# Altium schematic symbol library Schlib Matias.SchLib: 49 symbols
Pins are listed as number, name and electrical type; pins without a type are passive.

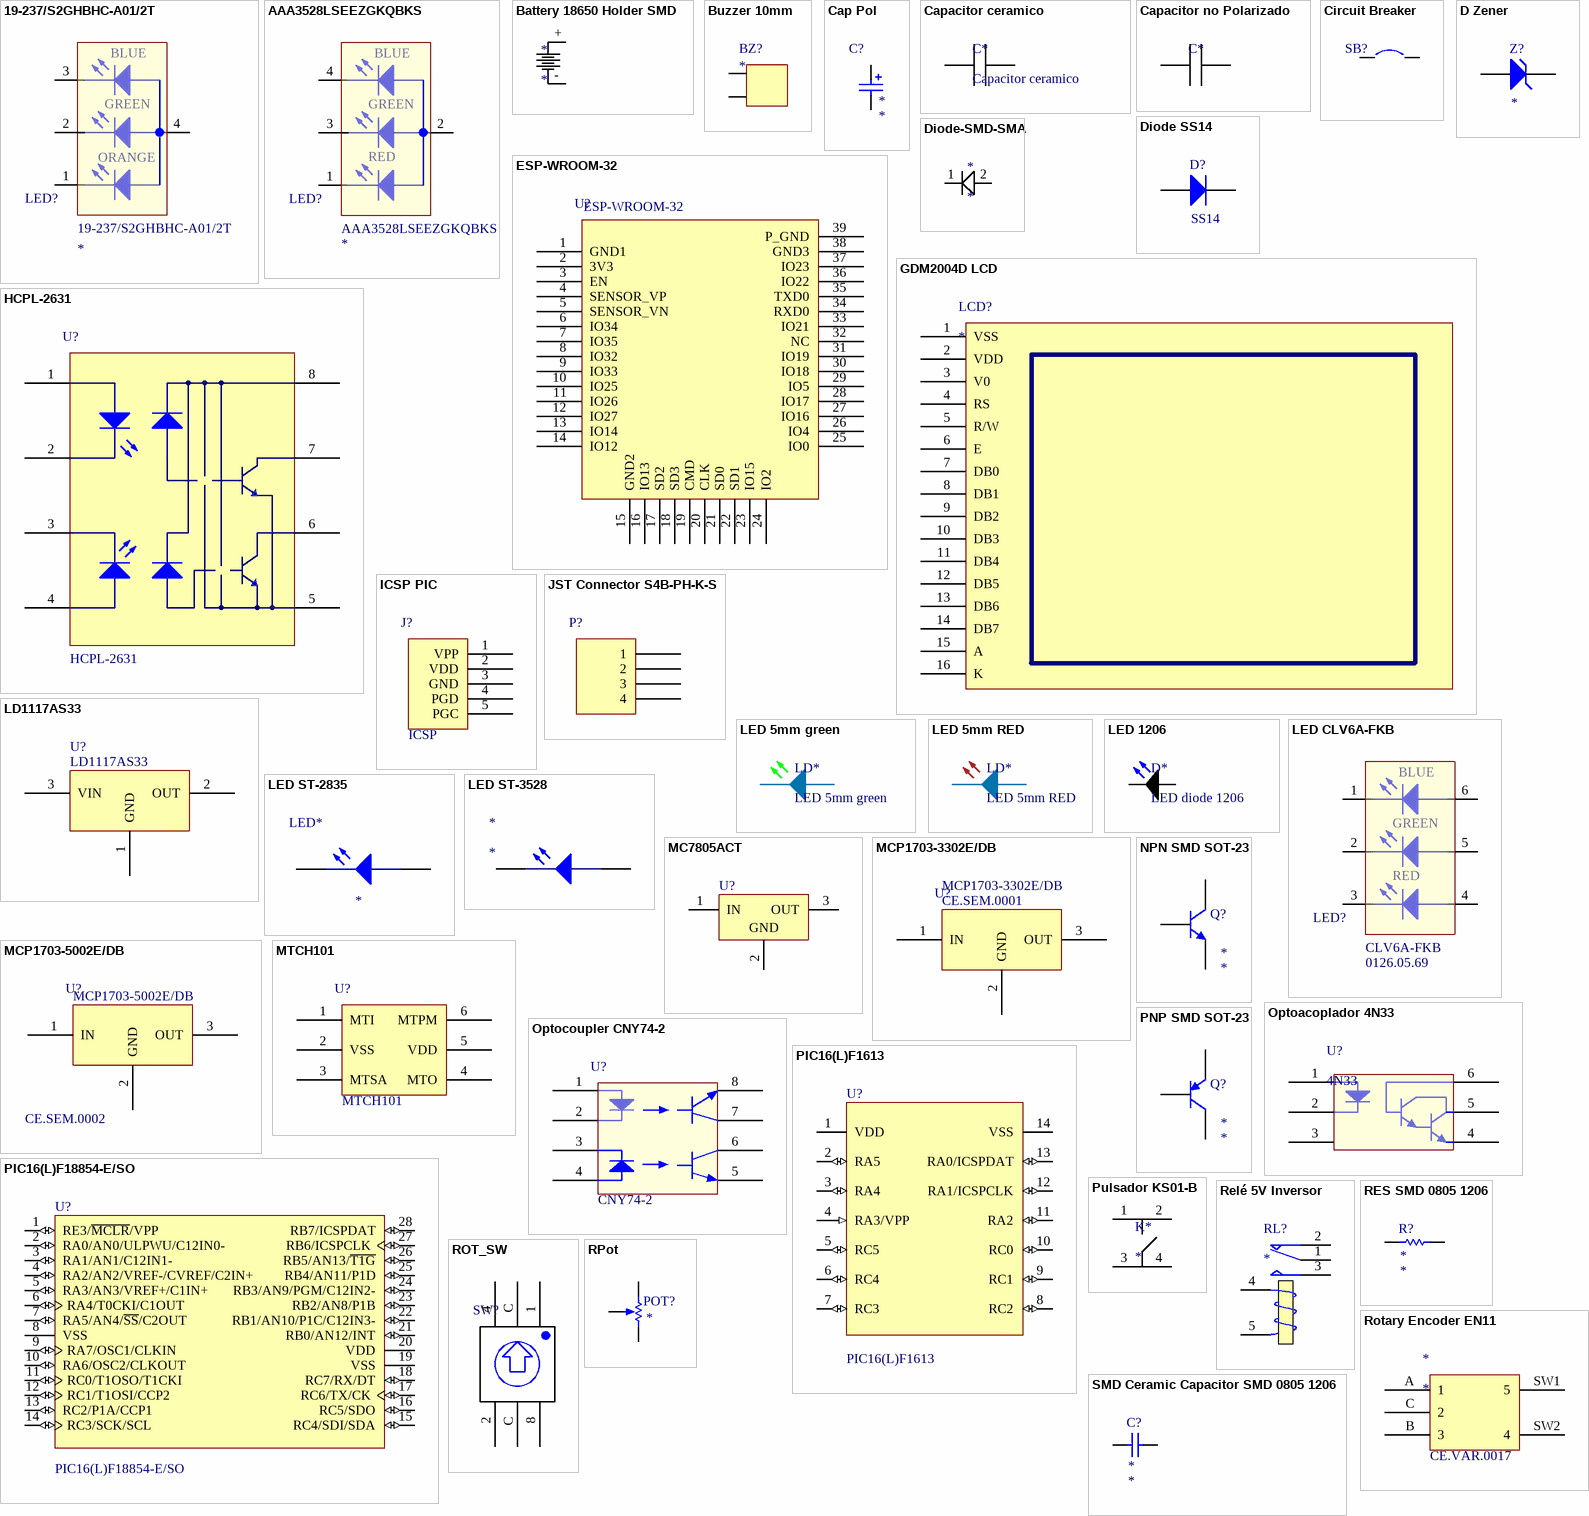
[diagram p0: symbols 19-237/S2GHBHC-A01/2T to SMD Ceramic Capacitor SMD 0805 1206]

## 19-237/S2GHBHC-A01/2T
designator LED?, comment Valor: 19-237/S2GHBHC-A01/2T  (hidden comment: LED)
LED Everlight 19-237/S2GHBHC-A01/2T; ComponentLink2Description: Datasheet; ComponentLink2URL: C:\Matias\Proyectos\Encoder NEO\Datasheets\19-237,S2GHBHC-A01,2T.pdf; Supplier 1: Avnet; Supplier 2: Avnet; Codigo FV: *
footprint LED RGB 19-237/S2GHBHC
pins: 1 S2, 2 GH, 3 BH, 4 +
text: BLUE; GREEN; ORANGE

## AAA3528LSEEZGKQBKS
designator LED?, comment Valor: AAA3528LSEEZGKQBKS  (hidden comment: LED)
LED Kingbright RGB 3528; ComponentLink2Description: Datasheet; ComponentLink2URL: C:\Matias\Proyectos\TRIA LEDS y ARM\Datasheet\AAA3528LSEEZGKQBKS.pdf; Codigo FV: *
footprint LED RGB 3528 4 PINES
pins: 1 KR, 2 KG, 3 KR, 4 KB
text: BLUE; GREEN; RED

## Battery 18650 Holder SMD
designator *
Battery Holder 18650 SMD TAP
footprint Battery 18650 Holder SMD
pins: +, -

## Buzzer 10mm
designator BZ?
BUZZER 3V CON OSCILADOR DE 10MM 83dB MINIMO @10cm
footprint BUZZER 10MM
pins: 1, 2

## Cap Pol
designator C?
Polarized Capacitor; Valor: *; Codigo FV: *
footprint RB6.5
footprint RB5
footprint RB3.5-8.5
footprint RB1.5-4
footprint CAP_ELECT_SMD_6.3X5.9
footprint 6032
pins: 1, 2

## Capacitor ceramico
designator C*
Ceramic Capacitor
footprint Capacitor ceramico (capacitor ceramico)
pins: 1, 2

## Capacitor no Polarizado
designator C*  (value not drawn)
Non Polarized Capacitor
footprint CAP_POLY_1uF_400V
pins: 1, 2

## Circuit Breaker
designator SB?  (value not drawn)
Solder: NO; Published: 24-Mar-1999; Revision: July-2002: Re-released for DXP Platform.; Publisher: Altium Limited
footprint JP2_SMD
pins: 1, 2

## D Zener
designator Z?  (value not drawn)
Zener Diode; Codigo FV: *
simulation model ZENER (Diode)
signal-integrity model D Zener
footprint SOD-123 (SOD-123; 2 Leads; Body 2.7 x 1.6 mm, (LxW))
footprint QMELF (MELF Diode, 2-Leads, Body 3,50x1,65mm, IPC Medium Density)
pins: A, K

## Diode SS14
designator D?  Valor: SS14  (hidden comment: Diode SS14)
Surface Mount Schottky Barrier Rectifier; PackageReference: SMA; ComponentLink1Description: Manufacturer Link; ComponentLink1URL: https://www.vishay.com/; ComponentLink2Description: Datasheet; ComponentLink2URL: https://www.vishay.com/docs/88746/ss12.pdf
footprint SMA (DO-214-AC/SMA; 2 C-Bend Leads; Body 5 x 2.7 mm, inc. leads (LxW))
pins: 1 A, 2 K

## Diode-SMD-SMA
designator *
footprint Diode-SMD-SMA
pins: 1, 2

## ESP-WROOM-32
designator U?  Valor: ESP-WROOM-32  (hidden comment: *)
Wi-Fi+BT+BLE MCU module; ComponentLink1Description: Datasheet; ComponentLink1URL: https://www.espressif.com/en/esp-wroom-32/resources
footprint ESP-WROOM-32
pins: 1 GND1, 2 3V3, 3 EN, 4 SENSOR_VP, 5 SENSOR_VN, 6 IO34, 7 IO35, 8 IO32, 9 IO33, 10 IO25, 11 IO26, 12 IO27, 13 IO14, 14 IO12, 15 GND2, 16 IO13, 17 SD2, 18 SD3, 19 CMD, 20 CLK, 21 SD0, 22 SD1, 23 IO15, 24 IO2, 25 IO0, 26 IO4, 27 IO16, 28 IO17, 29 IO5, 30 IO18, 31 IO19, 32 NC, 33 IO21, 34 RXD0, 35 TXD0, 36 IO22, 37 IO23, 38 GND3, 39 P_GND

## GDM2004D LCD
designator LCD?
GDM2004D LCD XIAMEN OCULAR; ComponentLink2URL: https://www.sparkfun.com/datasheets/LCD/GDM2004D.pdf; ComponentLink2Description: Datasheet
footprint GDM2004D LCD
pins: 1 VSS, 2 VDD, 3 V0, 4 RS, 5 R/W, 6 E, 7 DB0, 8 DB1, 9 DB2, 10 DB3, 11 DB4, 12 DB5, 13 DB6, 14 DB7, 15 A, 16 K

## HCPL-2631
designator U?
Dual-Channel High Speed-10 MBit/s Logic Gate Optocouplers; ComponentLink1URL: https://www.jameco.com/Jameco/Products/ProdDS/871463.pdf; ComponentLink1Description: Datasheet; Valor: HCPL-2631
footprint DIP-8
footprint DIP-8 SURFACE MOUNT
pins: 1 VF1+, 2 VF1-, 3 VF2-, 4 VF2+, 5 GND, 6 V02, 7 V01, 8 VCC

## ICSP PIC
designator J?  Valor: ICSP  (hidden comment: *)
In-Serial Circuit Programmer Header; ComponentLink2URL: http://www.sycelectronica.com.ar/conectores/PLS40-270.pdf; ComponentLink2Description: Datasheet
footprint ISCP HEADER
pins: 1 VPP, 2 VDD, 3 GND, 4 PGD, 5 PGC

## JST Connector S4B-PH-K-S
designator P?  (value not drawn)
JST Connector S4B-PH-K-S; ComponentLink1URL: http://www.jst-mfg.com/product/pdf/eng/ePH.pdf; ComponentLink1Description: Datasheet; Valor: S4B-PH-K-S
footprint CONN S4B-PH-K-S
pins: 1, 2, 3, 4

## LD1117AS33
designator U?
Low drop fixed 3.3V voltage regulator; PackageReference: SOT223; ComponentLink2Description: Datasheet; ComponentLink2URL: https://www.st.com/resource/en/datasheet/cd00002116.pdf; Valor: LD1117AS33
footprint SOT223 (SOT223, 4-Leads, Body 6,7x7,3mm (max), Pitch 2,30mm, IPC Medium Density)
pins: 1 GND, 2 OUT, 3 VIN

## LED 5mm green
designator LD*
footprint LED 5mm Green
pins: A, K

## LED 5mm RED
designator LD*
footprint LED 5mm RED
pins: A, K

## LED 1206
designator D*, comment LED diode 1206
footprint Diode-1206 (LED diode SMD 1206)
pins: 1, 2

## LED CLV6A-FKB
designator LED?, comment Valor: CLV6A-FKB  Codigo FV: 0126.05.69  (hidden comment: LED)
Cree® PLCC6 3-in-1 SMD LED; ComponentLink2Description: Datasheet; ComponentLink2URL: http://pdf1.alldatasheet.com/datasheet-pdf/view/620889/MARKTECH/CLV6A.html
footprint LED_SMD_MULTICOLOR
pins: 1 KB, 2 KG, 3 KR, 4 AR, 5 AG, 6 AB
text: BLUE; GREEN; RED

## LED ST-2835
designator LED*
LED AZUL ST-2835; Valor: *
pins: A AB, K KB

## LED ST-3528
designator *
LED AZUL ST-3528
footprint 0805 LED
footprint LED AZUL CHICO SMD
pins: A AB, K KB

## MC7805ACT
designator U?
3-Terminal Positive Fixed Voltage Regulator; Note: Pin 2 is electrically connected to TAB; Published: 17-Jul-2002; DatasheetVersion: 1988; PackageReference: 221A-04; Publisher: Altium Limited; PackageDescription: TO, Thru-Hole, Vertical, Heatsink Mounted; 3 In-Line Leads; Pitch 2.54 mm; Code_JEDEC: TO-262-AA; ComponentLink1Description: Manufacturer Link; ComponentLink1URL: http://www.onsemi.com/site/products/taxonomy/0,4438,503,00.html; ComponentLink2Description: Datasheet; ComponentLink2URL: http://www.onsemi.com/pub/Collateral/MC7800-D.PDF
footprint 221A-04 (TO, Thru-Hole, Vertical, Heatsink Mounted; 3 In-Line Leads; Pitch 2.54 mm)
pins: 1 IN (power), 2 GND (power), 3 OUT (power)

## MCP1703-3302E/DB
designator U?  Valor: MCP1703-3302E/DB  Codigo FV: CE.SEM.0001  (hidden comment: *)
250 mA, 16V, Vo = 3.3V, Low Quiescent Current LDO Regulator; PackageReference: SOT223; ComponentLink2Description: Datasheet; ComponentLink2URL: http://ww1.microchip.com/downloads/en/DeviceDoc/22049f.pdf; ComponentLink3Description: Datasheet MCP1825; ComponentLink3URL: http://ww1.microchip.com/downloads/en/DeviceDoc/22056b.pdf
footprint SOT223 (SOT223, 4-Leads, Body 6,7x7,3mm (max), Pitch 2,30mm, IPC Medium Density)
pins: 1 IN, 2 GND, 3 OUT

## MCP1703-5002E/DB
designator U?  Valor: MCP1703-5002E/DB  Codigo FV: CE.SEM.0002  (hidden comment: *)
250 mA, 16V, Vo = 5V, Low Quiescent Current LDO Regulator; PackageReference: SOT223; ComponentLink2Description: Datasheet; ComponentLink2URL: http://ww1.microchip.com/downloads/en/DeviceDoc/22049f.pdf
footprint SOT223 (SOT223, 4-Leads, Body 6,7x7,3mm (max), Pitch 2,30mm, IPC Medium Density)
footprint SOT-23A
pins: 1 IN, 2 GND, 3 OUT

## MTCH101
designator U?
Single-Channel Proximity Detector; PackageReference: SOT-23-6; ComponentLink2Description: Datasheet; ComponentLink2URL: http://ww1.microchip.com/downloads/en/DeviceDoc/40001664B.pdf; Valor: MTCH101
footprint SOT-23-6
pins: 1 MTI, 2 VSS, 3 MTSA, 4 MTO, 5 VDD, 6 MTPM

## NPN SMD SOT-23
designator Q?
NPN Bipolar Transistor; Published: 8-Jun-2000; LatestRevisionDate: 29-May-2009; LatestRevisionNote: IPC-7351 Footprint Added.; PackageVersion: Aug-1999; PackageReference: SOT-23B; Publisher: Altium Limited; PackageDescription: 3-Pin SOT-23 Package 0.95 mm Pitch, 2.4 mm Lead Span; Valor: *; Codigo FV: *
footprint SOT95P240-3N (SOT23, 3-Leads, Body 2.9x1.3mm, Pitch 0.95mm, Lead Span 2.4mm, IPC Medium Density)
simulation model QNPN (NPN)
signal-integrity model NPN
pins: 1 B, 2 E, 3 C

## Optoacoplador 4N33
designator U?, comment 4N33
Optocoupler, Photodarlington Output, High Gain, With Base Connection; ComponentLink2Description: Datasheet; ComponentLink2URL: https://www.vishay.com/docs/81865/4n324n33.pdf; PackageReference: DIP-6; Valor: 4N33
footprint DIP-6
pins: 1 A, 2 C, 3 NC, 4 E, 5 C, 6 B

## Optocoupler CNY74-2
designator U?, comment CNY74-2
Optocoupler, Phototransistor Output (Multichannel); ComponentLink1URL: https://pdf1.alldatasheet.com/datasheet-pdf/view/81943/TEMIC/CNY74-2.html; ComponentLink1Description: Datasheet; Valor: CNY74-2
footprint DIP-8
pins: 1 A1, 2 C1, 3 C2, 4 A2, 5 E2, 6 C2, 7 C1, 8 E1

## PIC16(L)F1613
designator U?
8/14-Pin, 8-Bit Flash Microcontroller; ComponentLink1Description: Datasheet; ComponentLink1URL: https://ww1.microchip.com/downloads/en/DeviceDoc/40001737C.pdf; ComponentLink3Description: Microchip.com Home; ComponentLink3URL: http://www.microchip.com/; Supplier 2: Digi-Key; Valor: PIC16(L)F1613
footprint SOIC-14
pins: 1 VDD (power), 2 RA5 (io), 3 RA4 (io), 4 RA3/VPP (in), 5 RC5 (io), 6 RC4 (io), 7 RC3 (io), 8 RC2 (io), 9 RC1 (io), 10 RC0 (io), 11 RA2 (io), 12 RA1/ICSPCLK (io), 13 RA0/ICSPDAT (io), 14 VSS (power)

## PIC16(L)F18854-E/SO
designator U?
8-bit microcontroller feature Analog, Core Independent Peripherals and Communication Peripherals, combined with eXtreme Low-Power (XLP) technology; PackageReference: SOIC-SO28; PackageDescription: 28-Lead Plastic Small Outline (SO) - Wide 7.50mm Body [SOIC]; ComponentLink1Description: Datasheet; ComponentLink1URL: http://ww1.microchip.com/downloads/en/DeviceDoc/PIC16(L)F18854%20Data%20Sheet_DS40001826C.pdf; ComponentLink2Description: Packaging Specification; ComponentLink3Description: Microchip.com Home; ComponentLink3URL: http://www.microchip.com/; Supplier 2: Digi-Key; Valor: PIC16(L)F18854-E/SO
footprint SOIC-SO28_N
pins: 1 RE3/~{MCLR}/VPP (io), 2 RA0/AN0/ULPWU/C12IN0- (io), 3 RA1/AN1/C12IN1- (io), 4 RA2/AN2/VREF-/CVREF/C2IN+ (io), 5 RA3/AN3/VREF+/C1IN+ (io), 6 RA4/T0CKI/C1OUT (io), 7 RA5/AN4/~{SS}/C2OUT (io), 8 VSS (power), 9 RA7/OSC1/CLKIN (io), 10 RA6/OSC2/CLKOUT (io), 11 RC0/T1OSO/T1CKI (io), 12 RC1/T1OSI/CCP2 (io), 13 RC2/P1A/CCP1 (io), 14 RC3/SCK/SCL (io), 15 RC4/SDI/SDA (io), 16 RC5/SDO (io), 17 RC6/TX/CK (io), 18 RC7/RX/DT (io), 19 VSS (power), 20 VDD (power), 21 RB0/AN12/INT (io), 22 RB1/AN10/P1C/C12IN3- (io), 23 RB2/AN8/P1B (io), 24 RB3/AN9/PGM/C12IN2- (io), 25 RB4/AN11/P1D (io), 26 RB5/AN13/~{T1G} (io), 27 RB6/ICSPCLK (io), 28 RB7/ICSPDAT (io)

## PNP SMD SOT-23
designator Q?
PNP Bipolar Transistor; Published: 8-Jun-2000; LatestRevisionDate: 29-May-2009; LatestRevisionNote: IPC-7351 Footprint Added.; PackageVersion: Aug-1999; PackageReference: SOT-23B; Publisher: Altium Limited; PackageDescription: 3-Pin SOT-23 Package 0.95 mm Pitch, 2.4 mm Lead Span; Valor: *; Codigo FV: *
simulation model PNP
signal-integrity model PNP
footprint SOT95P240-3N
pins: 1 B, 2 E, 3 C

## Pulsador KS01-B
designator K*
Pulsador KS01-B
footprint Pulsador KS01-B (Pulsador Negro grande)
pins: 1, 2, 3, 4

## Relé 5V Inversor
designator RL?
Relé 5V Inversor; ComponentLink1Description: Datasheet; ComponentLink1URL: https://www.sparkinter.com/pdf/150202-0501202.pdf
footprint Relé SPDT
pins: 1 COM, 2 NC, 3 NO, 4 T1, 5 T2

## RES SMD 0805 1206
designator R?  (value not drawn)
Resistor SMD; PackageReference: 0805-1206; Codigo FV: *; Valor: *
footprint 8-1206 RES
footprint 0805 RES
pins: 1, 2

## ROT_SW
designator SW?  (value not drawn)
Rotary Switch
footprint ROT_SW
pins: 1, 2, 4, 8, C, C

## Rotary Encoder EN11
designator *  Codigo FV: CE.VAR.0017
Rotary Encoder EN11
footprint Model Name (Model Description)
footprint Encoder
pins: A 1, B 3, C 2, SW1 5, SW2 4

## RPot
designator POT?  (value not drawn)
Potentiometer; ComponentLink1Description: Datasheet; ComponentLink1URL: http://www.bourns.com/docs/product-datasheets/3386.pdf?sfvrsn=1b7dca91_6; PackageReference: 3386C; Valor: *
footprint POT_BOURNS_3386C
pins: 1 TOP, 2 TAP, 3 BOT
1 alternate drawing of the same symbol

## SMD Ceramic Capacitor SMD 0805 1206
designator C?  (value not drawn)
Capacitor SMD Ceramico; Published: 8-Jun-2000; LatestRevisionDate: 17-Jul-2002; LatestRevisionNote: Re-released for DXP Platform.; Publisher: Altium Limited; PackageReference: 0805-1206; Codigo FV: *; Valor: *
footprint 8-1206 CAP
footprint 0805 CAP
pins: 1, 2

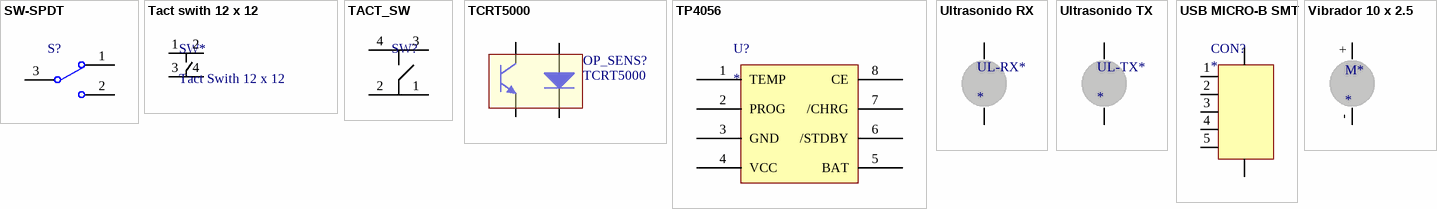
[diagram p1: symbols SW-SPDT to Vibrador 10 x 2.5]

## SW-SPDT
designator S?  (value not drawn)
Switch Single Push Double Throw
footprint SW_RETENCION
pins: 1, 2, 3

## Tact swith 12 x 12
designator SW*, comment Tact Swith 12 x 12
footprint Tact swith 12 x 12
pins: 1, 2, 3, 4

## TACT_SW
designator SW?, comment TACT_SWITCH  (value not drawn)
Tactile Switch SPST
footprint SW
footprint SW - SMD
pins: 1, 2, 3, 4

## TCRT5000
designator OP_SENS?
Reflective Optical Sensor with Transistor Output; ComponentLink1URL: https://www.vishay.com/docs/83760/tcrt5000.pdf; ComponentLink1Description: Datasheet; Valor: TCRT5000
footprint TCRT5000
pins: A, C, E, K

## TP4056
designator U?
Linear Li-lon Battery Charger; ComponentLink1Description: Datasheet; ComponentLink1URL: http://www.datasheetcafe.com/tp4056-datasheet-battery-charger/
footprint SOIC-8
pins: 1 TEMP, 2 PROG, 3 GND, 4 VCC, 5 BAT, 6 /STDBY, 7 /CHRG, 8 CE

## Ultrasonido RX
designator UL-RX*
RECEPTOR ULTRASONICO 10mm 40KHZ; Codigo Microelectronica: 40R10
footprint Ultrasonido (Modulo de 10mm)
pins: +, -

## Ultrasonido TX
designator UL-TX*
TRANSMISOR ULTRASONICO 10mm 40KHZ; Codigo Microelectronica: 40T10
footprint Ultrasonido (Footprint para modulos 10mm)
pins: +, -

## USB MICRO-B SMT
designator CON?
USB MICRO-B SMT CONNECTOR; ComponentLink1Description: Footprint model; ComponentLink1URL: https://respuestas.me/q/montaje-del-conector-micro-usb-b-en-una-pcb-62251001016
footprint MICRO USB-B SMT
pins: 1, 2, 3, 4, 5, 6, 6

## Vibrador 10 x 2.5
designator M*
Vibrador 10 x 2.5 de 3V
footprint Vibrador (Motor 10 x 2.5 vibrador de 3V)
pins: +, -